# Altium schematic symbol library LTC3854.SchLib: 1 symbol
Pins are listed as number, name and electrical type; pins without a type are passive.

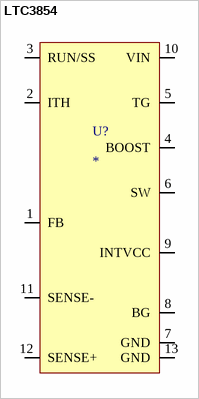
[diagram p0: symbol LTC3854]

## LTC3854
designator U?
Small Footprint, Wide  VIN Range Synchronous  Step-Down Controller; Part No.: LTC3854; Vendor: Linear Technology; Manufacturer: Linear Technology; Price Est.: $2.39
footprint LTC3854 (Linear Technology LTC3854 MSE MSOP-12)
pins: 1 FB, 2 ITH, 3 RUN/SS, 4 BOOST, 5 TG, 6 SW, 7 GND, 8 BG, 9 INTVCC, 10 VIN, 11 SENSE-, 12 SENSE+, 13 GND